# EAGLE library part MA09-1 (library MyComponents)
Headers & Wire Housing, 1 Row, 9 Position
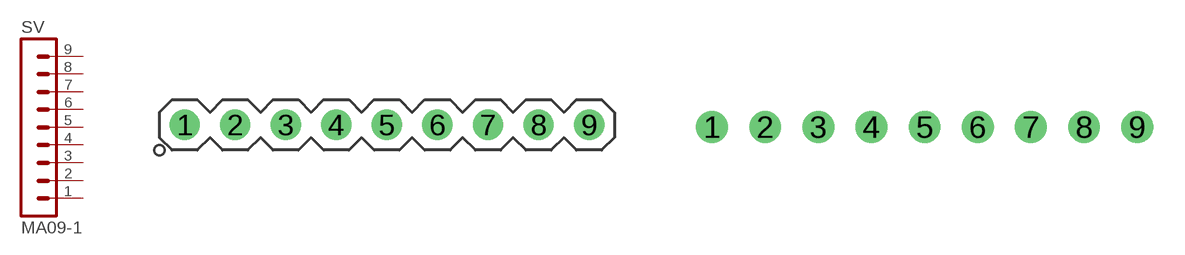
[diagram p10: symbol with the pads of MA09-1; footprints MA09-1, MA09-1-NO-PL]

Designator prefix SV

## MA09-1PL  [MA09-1]
1  1  pas
2  2  pas
3  3  pas
4  4  pas
5  5  pas
6  6  pas
7  7  pas
8  8  pas
9  9  pas

## MA09-1NO-PL  [MA09-1-NO-PL]
Pads as for MA09-1

## Footprint MA09-1 (pad centres in mm)
PIN HEADER
drill 1.016: 1 -10.16,0; 2 -7.62,0; 3 -5.08,0; 4 -2.54,0; 5 0,0; 6 2.54,0; 7 5.08,0; 8 7.62,0; 9 10.16,0

## Footprint MA09-1-NO-PL (pad centres in mm)
PIN HEADER
drill 1.016: 1 -10.16,0; 2 -7.62,0; 3 -5.08,0; 4 -2.54,0; 5 0,0; 6 2.54,0; 7 5.08,0; 8 7.62,0; 9 10.16,0